# EAGLE library part 1803549 (library con-phoenix-3.81)
MCV 1,5/14-G-3,81 Grundgehäuse Nennstrom: 8 A Bemessungsspannung: 160 V Raster: 3,81 mm Polzahl: 14 Montageart: Löten Source: http://eshop.phoenixcontact.com .. 1803549.pdf
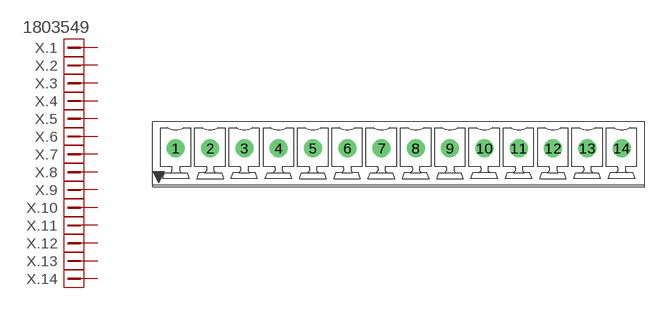
[diagram p2: symbol with the pads of 1803549; footprint 1803549]

Designator prefix X; gates .1=PINV .2=PIN .3=PIN .4=PIN .5=PIN .6=PIN .7=PIN .8=PIN .9=PIN .10=PIN .11=PIN .12=PIN .13=PIN .14=PIN

## 1803549  [1803549]
1  .1:1  pas
2  .2:1  pas
3  .3:1  pas
4  .4:1  pas
5  .5:1  pas
6  .6:1  pas
7  .7:1  pas
8  .8:1  pas
9  .9:1  pas
10  .10:1  pas
11  .11:1  pas
12  .12:1  pas
13  .13:1  pas
14  .14:1  pas

## Footprint 1803549 (pad centres in mm)
MCV 1,5/14-G-3,81 Grundgehäuse Nennstrom: 8 A Bemessungsspannung: 160 V Raster: 3,81 mm Polzahl: 14 Montageart: Löten Source: http://eshop.phoenixcontact.com .. 1803549.pdf
drill 1.2 pad 2: 1 -24.765,0.635; 2 -20.955,0.635; 3 -17.145,0.635; 4 -13.335,0.635; 5 -9.525,0.635; 6 -5.715,0.635; 7 -1.905,0.635; 8 1.905,0.635; 9 5.715,0.635; 10 9.525,0.635; 11 13.335,0.635; 12 17.145,0.635; 13 20.955,0.635; 14 24.765,0.635